# EAGLE library part TMR1223 (library my_mixed)
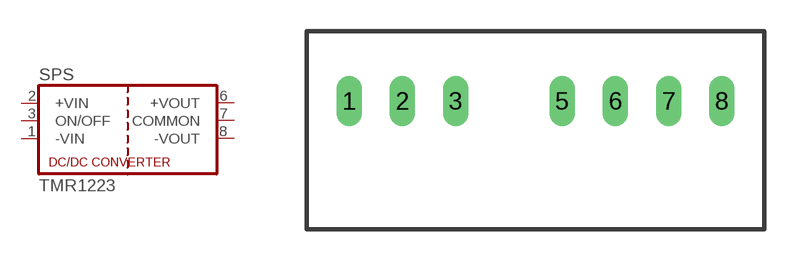
[diagram p14: symbol with the pads of TRACO_SIP-8; footprint TRACO_SIP-8]

Designator prefix SPS

## TMR1223  [TRACO_SIP-8]
1  -VIN  pwr
2  +VIN  pwr
3  ON/OFF  pas
6  +VOUT  pas
7  COMMON  pas
8  -VOUT  pas

## Footprint TRACO_SIP-8 (pad centres in mm)
drill 0.7 long: 1 -8.89,0; 2 -6.35,0; 3 -3.81,0; 5 1.27,0; 6 3.81,0; 7 6.35,0; 8 8.89,0